# EAGLE library part LT6203 (library MDB_HOME)
Rail-to-Rail Input and Output, Ultralow 1.9nV/√Hz Noise, Low Power Op Amps
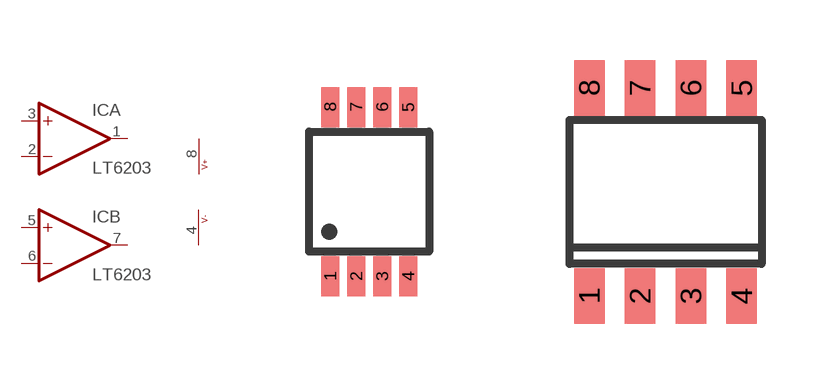
[diagram p39: symbol with the pads of MSOP8; footprints MSOP8, S8]

Designator prefix IC; gates A=OPAMP B=OPAMP G$3=PWR+-

## LT6203MSOP  [MSOP8]
1  A:OUT  out
2  A:-IN  in
3  A:+IN  in
4  G$3:V-  pwr
5  B:+IN  in
6  B:-IN  in
7  B:OUT  out
8  G$3:V+  pwr

## LT6203S8  [S8]
Pads as for MSOP8

## Footprint MSOP8 (pad centres in mm)
smd 0.45 x 1: 1 -0.975,-2.115; 2 -0.325,-2.115; 3 0.325,-2.115; 4 0.975,-2.115; 5 0.975,2.115; 6 0.325,2.115; 7 -0.325,2.115; 8 -0.975,2.115

## Footprint S8 (pad centres in mm)
8-Lead Plastic Small Outline Narrow .150 Inch Source: http://cds.linear.com/docs/Datasheet/623012fb.pdf
smd 0.762 x 1.397: 1 -1.905,-2.6; 2 -0.635,-2.6; 3 0.635,-2.6; 4 1.905,-2.6; 5 1.905,2.6; 6 0.635,2.6; 7 -0.635,2.6; 8 -1.905,2.6